# Altium schematic symbol library xSchlib.SchLib: 9 symbols
Pins are listed as number, name and electrical type; pins without a type are passive.

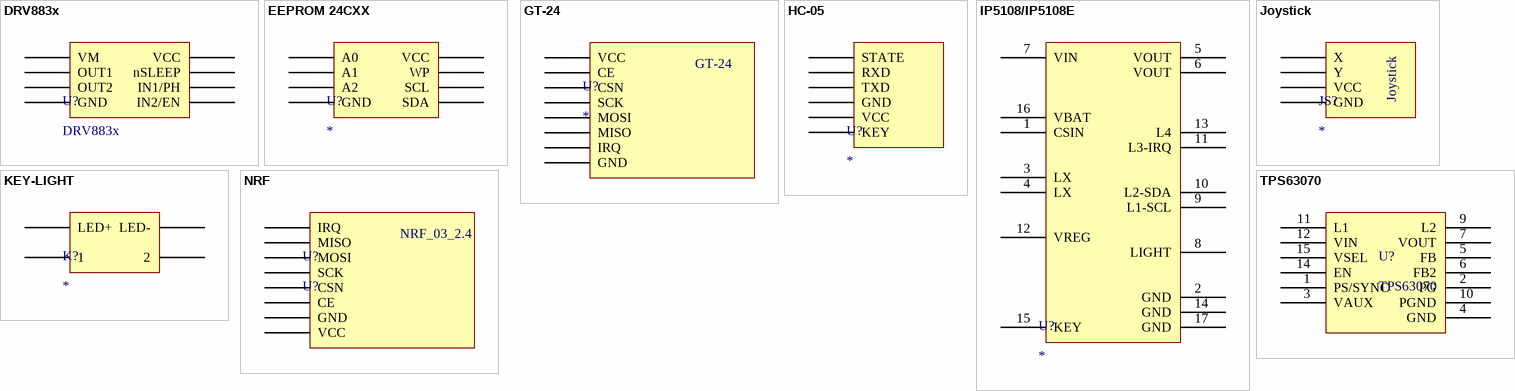
[diagram p0: symbols DRV883x to TPS63070]

## DRV883x
designator U?
footprint WSON-8
pins: 1 VM, 2 OUT1, 3 OUT2, 4 GND, 5 IN2/EN, 6 IN1/PH, 7 nSLEEP, 8 VCC

## EEPROM 24CXX
designator U?
24CXX
pins: 1 A0, 2 A1, 3 A2, 4 GND, 5 SDA, 6 SCL, 7 WP, 8 VCC

## GT-24
designator U?
NRF24L01
footprint GT-24
pins: 1 VCC, 2 CE, 3 CSN, 4 SCK, 5 MOSI, 6 MISO, 7 IRQ, 8 GND

## HC-05
designator U?
Bluetooth
pins: 1 KEY, 2 VCC, 3 GND, 4 TXD, 5 RXD, 6 STATE

## IP5108/IP5108E
designator U?
2A/1A Charger SoC
footprint SOP16_PWR (SOP, 16-Leads, Body 9.90x3.90mm, Pitch 1.27mm, IPC Medium Density)
pins: 1 CSIN, 2 GND, 3 LX, 4 LX, 5 VOUT, 6 VOUT, 7 VIN, 8 LIGHT, 9 L1-SCL, 10 L2-SDA, 11 L3-IRQ, 12 VREG, 13 L4, 14 GND, 15 KEY, 16 VBAT, 17 GND

## Joystick
designator JS?
pins: 1 GND, 2 VCC, 3 Y, 4 X

## KEY-LIGHT
designator K?
pins: 1, 2, 3 LED+, 4 LED-

## NRF
designator U?, comment U?
NRF24L01
footprint NRF-1
pins: 1 VCC, 2 GND, 3 CE, 4 CSN, 5 SCK, 6 MOSI, 7 MISO, 8 IRQ
text: NRF_03_2.4

## TPS63070
designator U?
降压-升压转换器
footprint VQFN-15-HR (VQFN)
pins: 1 PS/SYNC, 2 PG, 3 VAUX, 4 GND, 5 FB, 6 FB2, 7 VOUT, 9 L2, 10 PGND, 11 L1, 12 VIN, 14 EN, 15 VSEL